# EAGLE library part MMA3202D (library freescale-accelerometer)
X-Y AXIS SENSITIVITY MICROMACHINED ACCELEROMETER ±100/50g desig@radikaldesig.com
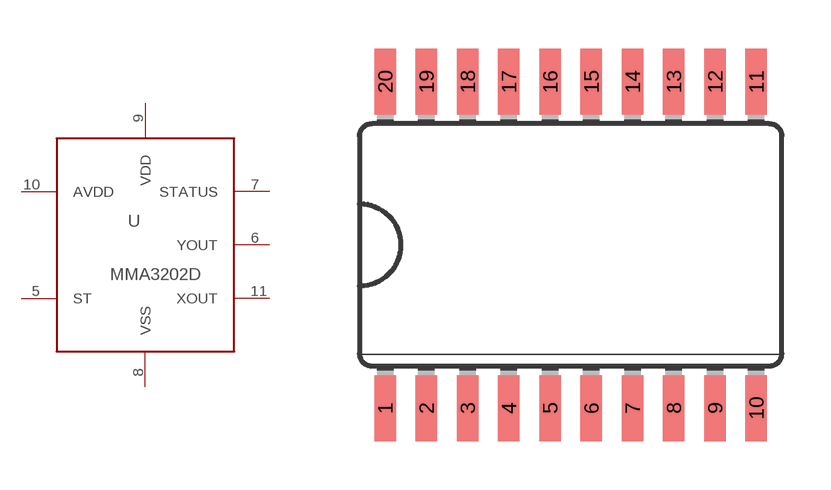
[diagram p1: symbol with the pads of 20SOIC; footprint 20SOIC]

Designator prefix U

## MMA3202D  [20SOIC]
5  ST
6  YOUT
7  STATUS
8  VSS
9  VDD
10  AVDD
11  XOUT

## Footprint 20SOIC (pad centres in mm)
smd 0.66 x 2.032: 1 -5.715,-5.029; 2 -4.445,-5.029; 3 -3.175,-5.029; 4 -1.905,-5.029; 5 -0.635,-5.029; 6 0.635,-5.029; 7 1.905,-5.029; 8 3.175,-5.029; 9 4.445,-5.029; 10 5.715,-5.029; 11 5.715,5.029; 12 4.445,5.029; 13 3.175,5.029; 14 1.905,5.029; 15 0.635,5.029; 16 -0.635,5.029; 17 -1.905,5.029; 18 -3.175,5.029; 19 -4.445,5.029; 20 -5.715,5.029